# Altium footprint library STM32WB55RGV6TR.PcbLib: 3 footprints
Each footprint in its own frame and in the unit in brackets; x right, y up, seen from the top. Pads: shape width x height; smd on the part's side, far side on the other; paste and mask are expansions set on the pad; w line width, h text height; cw(c..) or ccw(c..) is an arc to the next point about the centre after c.
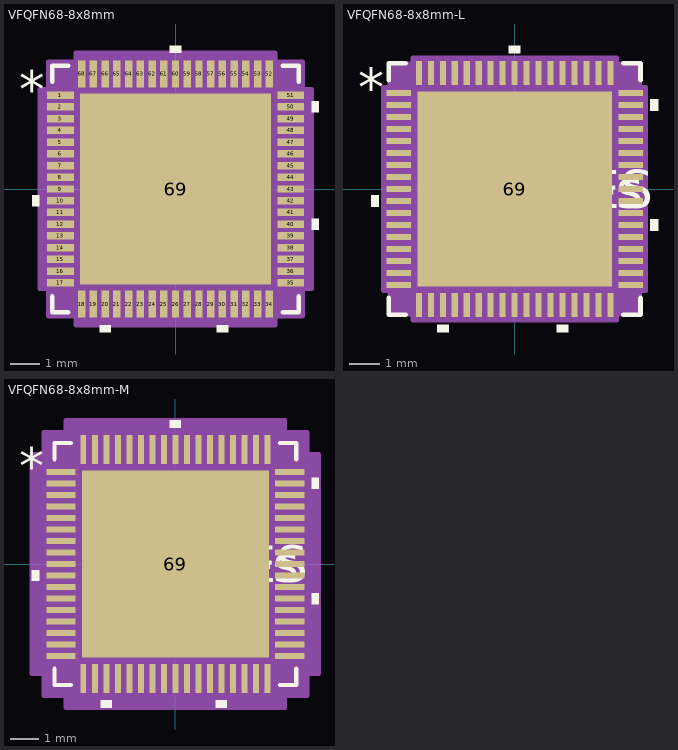
[diagram p0: the footprints below, top view; thin cyan lines are the x and y axes]

## VFQFN68-8x8mm [mil]
pads (69):
  rect 36x10 smd paste-18 mask-18: 1(-154.5,125.98) 2(-154.5,110.24) 3(-154.5,94.49) 4(-154.5,78.74) 5(-154.5,62.99) 6(-154.5,47.24) 7(-154.5,31.5) 8(-154.5,15.75) 9(-154.5,0) 10(-154.5,-15.75) 11(-154.5,-31.5) 12(-154.5,-47.24) 13(-154.5,-62.99) 14(-154.5,-78.74) 15(-154.5,-94.49) 16(-154.5,-110.24) 17(-154.5,-125.98) 35(154.5,-125.98) 36(154.5,-110.24) 37(154.5,-94.49) 38(154.5,-78.74) 39(154.5,-62.99) 40(154.5,-47.24) 41(154.5,-31.5) 42(154.5,-15.75) 43(154.5,0) 44(154.5,15.75) 45(154.5,31.5) 46(154.5,47.24) 47(154.5,62.99) 48(154.5,78.74) 49(154.5,94.49) 50(154.5,110.24) 51(154.5,125.98)
  rect 10x36 smd paste-18 mask-18: 18(-125.98,-154.5) 19(-110.24,-154.5) 20(-94.49,-154.5) 21(-78.74,-154.5) 22(-62.99,-154.5) 23(-47.24,-154.5) 24(-31.5,-154.5) 25(-15.75,-154.5) 26(0,-154.5) 27(15.75,-154.5) 28(31.5,-154.5) 29(47.24,-154.5) 30(62.99,-154.5) 31(78.74,-154.5) 32(94.49,-154.5) 33(110.24,-154.5) 34(125.98,-154.5) 52(125.98,154.5) 53(110.24,154.5) 54(94.49,154.5) 55(78.74,154.5) 56(62.99,154.5) 57(47.24,154.5) 58(31.5,154.5) 59(15.75,154.5) 60(0,154.5) 61(-15.75,154.5) 62(-31.5,154.5) 63(-47.24,154.5) 64(-62.99,154.5) 65(-78.74,154.5) 66(-94.49,154.5) 67(-110.24,154.5) 68(-125.98,154.5)
  rect 256x256 smd paste-128 mask+0: 69(0,0)
Top Overlay:
  region: 7.5,182.5 -7.5,182.5 -7.5,192.5 7.5,192.5
  region: 182.5,117.74 192.5,117.74 192.5,102.74 182.5,102.74
  region: 182.5,-39.74 192.5,-39.74 192.5,-54.74 182.5,-54.74
  region: 70.49,-182.5 55.49,-182.5 55.49,-192.5 70.49,-192.5
  region: -86.99,-182.5 -101.99,-182.5 -101.99,-192.5 -86.99,-192.5
  region: -182.5,-8.25 -192.5,-8.25 -192.5,-23.25 -182.5,-23.25
  lines w6: -165.5,-144.08 -165.5,-165.5 -144.08,-165.5 ; -165.5,144.08 -165.5,165.5 -144.08,165.5 ; 144.08,-165.5 165.5,-165.5 165.5,-144.08 ; 144.08,165.5 165.5,165.5 165.5,144.08
  text "*" at -210,108.86 h50
Top Paste:
  region: 124.06,-80.74 80.74,-80.74 80.74,-124.06 124.06,-124.06
  region: 124.06,-29.54 80.74,-29.54 80.74,-72.86 124.06,-72.86
  region: 124.06,21.66 80.74,21.66 80.74,-21.66 124.06,-21.66
  region: 124.06,72.86 80.74,72.86 80.74,29.54 124.06,29.54
  region: 124.06,124.06 80.74,124.06 80.74,80.74 124.06,80.74
  region: 72.86,-80.74 29.54,-80.74 29.54,-124.06 72.86,-124.06
  region: 72.86,-29.54 29.54,-29.54 29.54,-72.86 72.86,-72.86
  region: 72.86,21.66 29.54,21.66 29.54,-21.66 72.86,-21.66
  region: 72.86,72.86 29.54,72.86 29.54,29.54 72.86,29.54
  region: 72.86,124.06 29.54,124.06 29.54,80.74 72.86,80.74
  region: 21.66,-80.74 -21.66,-80.74 -21.66,-124.06 21.66,-124.06
  region: 21.66,-29.54 -21.66,-29.54 -21.66,-72.86 21.66,-72.86
  region: 21.66,21.66 -21.66,21.66 -21.66,-21.66 21.66,-21.66
  region: 21.66,72.86 -21.66,72.86 -21.66,29.54 21.66,29.54
  region: 21.66,124.06 -21.66,124.06 -21.66,80.74 21.66,80.74
  region: -29.54,-80.74 -72.86,-80.74 -72.86,-124.06 -29.54,-124.06
  region: -29.54,-29.54 -72.86,-29.54 -72.86,-72.86 -29.54,-72.86
  region: -29.54,21.66 -72.86,21.66 -72.86,-21.66 -29.54,-21.66
  region: -29.54,72.86 -72.86,72.86 -72.86,29.54 -29.54,29.54
  region: -29.54,124.06 -72.86,124.06 -72.86,80.74 -29.54,80.74
  region: -80.74,-80.74 -124.06,-80.74 -124.06,-124.06 -80.74,-124.06
  region: -80.74,-29.54 -124.06,-29.54 -124.06,-72.86 -80.74,-72.86
  region: -80.74,21.66 -124.06,21.66 -124.06,-21.66 -80.74,-21.66
  region: -80.74,72.86 -124.06,72.86 -124.06,29.54 -80.74,29.54
  region: -80.74,124.06 -124.06,124.06 -124.06,80.74 -80.74,80.74
Mechanical 13:
  lines w1: -160.5,110.5 -110.5,160.5 ; -160.5,-160.5 -160.5,160.5 160.5,160.5 160.5,-160.5 -160.5,-160.5 ; -160.5,-130.98 -160.5,-120.98 -160.5,-130.98 ; -160.5,-115.24 -160.5,-105.24 -160.5,-115.24 ; -160.5,-99.49 -160.5,-89.49 -160.5,-99.49 ; -160.5,-83.74 -160.5,-73.74 -160.5,-83.74 ; -160.5,-67.99 -160.5,-57.99 -160.5,-67.99 ; -160.5,-52.24 -160.5,-42.24 -160.5,-52.24 ; -160.5,-36.5 -160.5,-26.5 -160.5,-36.5 ; -160.5,-20.75 -160.5,-10.75 -160.5,-20.75 ; -160.5,-5 -160.5,5 -160.5,-5 ; -160.5,10.75 -160.5,20.75 -160.5,10.75 ; -160.5,26.5 -160.5,36.5 -160.5,26.5 ; -160.5,42.24 -160.5,52.24 -160.5,42.24 ; -160.5,57.99 -160.5,67.99 -160.5,57.99 ; -160.5,73.74 -160.5,83.74 -160.5,73.74 ; -160.5,89.49 -160.5,99.49 -160.5,89.49 ; -160.5,105.24 -160.5,115.24 -160.5,105.24 ; -160.5,120.98 -160.5,130.98 -160.5,120.98 ; -130.98,-160.5 -120.98,-160.5 -130.98,-160.5 ; -130.98,160.5 -120.98,160.5 -130.98,160.5 ; -115.24,-160.5 -105.24,-160.5 -115.24,-160.5 ; -115.24,160.5 -105.24,160.5 -115.24,160.5 ; -99.49,-160.5 -89.49,-160.5 -99.49,-160.5 ; -99.49,160.5 -89.49,160.5 -99.49,160.5 ; -83.74,-160.5 -73.74,-160.5 -83.74,-160.5 ; -83.74,160.5 -73.74,160.5 -83.74,160.5 ; -67.99,-160.5 -57.99,-160.5 -67.99,-160.5 ; -67.99,160.5 -57.99,160.5 -67.99,160.5 ; -52.24,-160.5 -42.24,-160.5 -52.24,-160.5 ; -52.24,160.5 -42.24,160.5 -52.24,160.5 ; -36.5,-160.5 -26.5,-160.5 -36.5,-160.5 ; -36.5,160.5 -26.5,160.5 -36.5,160.5 ; -20.75,-160.5 -10.75,-160.5 -20.75,-160.5 ; -20.75,160.5 -10.75,160.5 -20.75,160.5 ; -5,-160.5 5,-160.5 -5,-160.5 ; -5,160.5 5,160.5 -5,160.5 ; 10.75,-160.5 20.75,-160.5 10.75,-160.5 ; 10.75,160.5 20.75,160.5 10.75,160.5 ; 26.5,-160.5 36.5,-160.5 26.5,-160.5 ; 26.5,160.5 36.5,160.5 26.5,160.5 ; 42.24,-160.5 52.24,-160.5 42.24,-160.5 ; 42.24,160.5 52.24,160.5 42.24,160.5 ; 57.99,-160.5 67.99,-160.5 57.99,-160.5 ; 57.99,160.5 67.99,160.5 57.99,160.5 ; 73.74,-160.5 83.74,-160.5 73.74,-160.5 ; 73.74,160.5 83.74,160.5 73.74,160.5 ; 89.49,-160.5 99.49,-160.5 89.49,-160.5 ; 89.49,160.5 99.49,160.5 89.49,160.5 ; 105.24,-160.5 115.24,-160.5 105.24,-160.5 ; 105.24,160.5 115.24,160.5 105.24,160.5 ; 120.98,-160.5 130.98,-160.5 120.98,-160.5 ; 120.98,160.5 130.98,160.5 120.98,160.5 ; 160.5,-130.98 160.5,-120.98 160.5,-130.98 ; 160.5,-115.24 160.5,-105.24 160.5,-115.24 ; 160.5,-99.49 160.5,-89.49 160.5,-99.49 ; 160.5,-83.74 160.5,-73.74 160.5,-83.74 ; 160.5,-67.99 160.5,-57.99 160.5,-67.99 ; 160.5,-52.24 160.5,-42.24 160.5,-52.24 ; 160.5,-36.5 160.5,-26.5 160.5,-36.5 ; 160.5,-20.75 160.5,-10.75 160.5,-20.75 ; 160.5,-5 160.5,5 160.5,-5 ; 160.5,10.75 160.5,20.75 160.5,10.75 ; 160.5,26.5 160.5,36.5 160.5,26.5 ; 160.5,42.24 160.5,52.24 160.5,42.24 ; 160.5,57.99 160.5,67.99 160.5,57.99 ; 160.5,73.74 160.5,83.74 160.5,73.74 ; 160.5,89.49 160.5,99.49 160.5,89.49 ; 160.5,105.24 160.5,115.24 160.5,105.24 ; 160.5,120.98 160.5,130.98 160.5,120.98
  text "*" at -149,108.86 h50
Mechanical 15:
  region: -133.86,-170.5 -170.5,-170.5 -170.5,-133.86 -182.5,-133.86 -182.5,133.86 -170.5,133.86 -170.5,170.5 -133.86,170.5 -133.86,182.5 133.86,182.5 133.86,170.5 170.5,170.5 170.5,133.86 182.5,133.86 182.5,-133.86 170.5,-133.86 170.5,-170.5 133.86,-170.5 133.86,-182.5 -133.86,-182.5
  lines w6: -182.5,-133.86 -182.5,133.86 -170.5,133.86 -170.5,170.5 -133.86,170.5 -133.86,182.5 133.86,182.5 133.86,170.5 170.5,170.5 170.5,133.86 182.5,133.86 182.5,-133.86 170.5,-133.86 170.5,-170.5 133.86,-170.5 133.86,-182.5 -133.86,-182.5 -133.86,-170.5 -170.5,-170.5 -170.5,-133.86 -182.5,-133.86
3D body "VFQFN68-8x8mm.step": height 39.09, standoff 0, extent -160.51,-160.51 160.51,160.51

## VFQFN68-8x8mm-L [mil]
pads (69):
  rect 32x8 smd paste+0 mask+0: 1(-152.5,125.98) 2(-152.5,110.24) 3(-152.5,94.49) 4(-152.5,78.74) 5(-152.5,62.99) 6(-152.5,47.24) 7(-152.5,31.5) 8(-152.5,15.75) 9(-152.5,0) 10(-152.5,-15.75) 11(-152.5,-31.5) 12(-152.5,-47.24) 13(-152.5,-62.99) 14(-152.5,-78.74) 15(-152.5,-94.49) 16(-152.5,-110.24) 17(-152.5,-125.98) 35(152.5,-125.98) 36(152.5,-110.24) 37(152.5,-94.49) 38(152.5,-78.74) 39(152.5,-62.99) 40(152.5,-47.24) 41(152.5,-31.5) 42(152.5,-15.75) 43(152.5,0) 44(152.5,15.75) 45(152.5,31.5) 46(152.5,47.24) 47(152.5,62.99) 48(152.5,78.74) 49(152.5,94.49) 50(152.5,110.24) 51(152.5,125.98)
  rect 8x32 smd paste+0 mask+0: 18(-125.98,-152.5) 19(-110.24,-152.5) 20(-94.49,-152.5) 21(-78.74,-152.5) 22(-62.99,-152.5) 23(-47.24,-152.5) 24(-31.5,-152.5) 25(-15.75,-152.5) 26(0,-152.5) 27(15.75,-152.5) 28(31.5,-152.5) 29(47.24,-152.5) 30(62.99,-152.5) 31(78.74,-152.5) 32(94.49,-152.5) 33(110.24,-152.5) 34(125.98,-152.5) 52(125.98,152.5) 53(110.24,152.5) 54(94.49,152.5) 55(78.74,152.5) 56(62.99,152.5) 57(47.24,152.5) 58(31.5,152.5) 59(15.75,152.5) 60(0,152.5) 61(-15.75,152.5) 62(-31.5,152.5) 63(-47.24,152.5) 64(-62.99,152.5) 65(-78.74,152.5) 66(-94.49,152.5) 67(-110.24,152.5) 68(-125.98,152.5)
  rect 256x256 smd paste-128 mask+0: 69(0,0)
Top Overlay:
  region: -178.5,-8.25 -188.5,-8.25 -188.5,-23.25 -178.5,-23.25
  region: -86.99,-178.5 -101.99,-178.5 -101.99,-188.5 -86.99,-188.5
  region: 70.49,-178.5 55.49,-178.5 55.49,-188.5 70.49,-188.5
  region: 178.5,-39.74 188.5,-39.74 188.5,-54.74 178.5,-54.74
  region: 178.5,117.74 188.5,117.74 188.5,102.74 178.5,102.74
  region: 7.5,178.5 -7.5,178.5 -7.5,188.5 7.5,188.5
  lines w6: -165.5,-143.08 -165.5,-165.5 -143.08,-165.5 ; -165.5,143.08 -165.5,165.5 -143.08,165.5 ; 143.08,-165.5 165.5,-165.5 165.5,-143.08 ; 143.08,165.5 165.5,165.5 165.5,143.08
  text "*" at -206,108.86 h50
  text "RefDes" at -75,-25 h50
  text "REFDES" at -87.5,-25 h50
Top Paste:
  region: -80.74,124.06 -124.06,124.06 -124.06,80.74 -80.74,80.74
  region: -80.74,72.86 -124.06,72.86 -124.06,29.54 -80.74,29.54
  region: -80.74,21.66 -124.06,21.66 -124.06,-21.66 -80.74,-21.66
  region: -80.74,-29.54 -124.06,-29.54 -124.06,-72.86 -80.74,-72.86
  region: -80.74,-80.74 -124.06,-80.74 -124.06,-124.06 -80.74,-124.06
  region: -29.54,124.06 -72.86,124.06 -72.86,80.74 -29.54,80.74
  region: -29.54,72.86 -72.86,72.86 -72.86,29.54 -29.54,29.54
  region: -29.54,21.66 -72.86,21.66 -72.86,-21.66 -29.54,-21.66
  region: -29.54,-29.54 -72.86,-29.54 -72.86,-72.86 -29.54,-72.86
  region: -29.54,-80.74 -72.86,-80.74 -72.86,-124.06 -29.54,-124.06
  region: 21.66,124.06 -21.66,124.06 -21.66,80.74 21.66,80.74
  region: 21.66,72.86 -21.66,72.86 -21.66,29.54 21.66,29.54
  region: 21.66,21.66 -21.66,21.66 -21.66,-21.66 21.66,-21.66
  region: 21.66,-29.54 -21.66,-29.54 -21.66,-72.86 21.66,-72.86
  region: 21.66,-80.74 -21.66,-80.74 -21.66,-124.06 21.66,-124.06
  region: 72.86,124.06 29.54,124.06 29.54,80.74 72.86,80.74
  region: 72.86,72.86 29.54,72.86 29.54,29.54 72.86,29.54
  region: 72.86,21.66 29.54,21.66 29.54,-21.66 72.86,-21.66
  region: 72.86,-29.54 29.54,-29.54 29.54,-72.86 72.86,-72.86
  region: 72.86,-80.74 29.54,-80.74 29.54,-124.06 72.86,-124.06
  region: 124.06,124.06 80.74,124.06 80.74,80.74 124.06,80.74
  region: 124.06,72.86 80.74,72.86 80.74,29.54 124.06,29.54
  region: 124.06,21.66 80.74,21.66 80.74,-21.66 124.06,-21.66
  region: 124.06,-29.54 80.74,-29.54 80.74,-72.86 124.06,-72.86
  region: 124.06,-80.74 80.74,-80.74 80.74,-124.06 124.06,-124.06
Mechanical 13:
  drawing of 281 lines, arcs and shapes, not listed
  text "*" at -149,108.86 h50
  text "RefDes2" at -87.5,-25 h50
Mechanical 15:
  region: -133.98,-164.5 -164.5,-164.5 -164.5,-133.98 -172.5,-133.98 -172.5,133.98 -164.5,133.98 -164.5,164.5 -133.98,164.5 -133.98,172.5 133.98,172.5 133.98,164.5 164.5,164.5 164.5,133.98 172.5,133.98 172.5,-133.98 164.5,-133.98 164.5,-164.5 133.98,-164.5 133.98,-172.5 -133.98,-172.5
  lines w6: -172.5,-133.98 -164.5,-133.98 -164.5,-164.5 -133.98,-164.5 -133.98,-172.5 133.98,-172.5 133.98,-164.5 164.5,-164.5 164.5,-133.98 172.5,-133.98 172.5,133.98 164.5,133.98 164.5,164.5 133.98,164.5 133.98,172.5 -133.98,172.5 -133.98,164.5 -164.5,164.5 -164.5,133.98 -172.5,133.98 -172.5,-133.98
3D body "VFQFN68-8x8mm.step": height 39.09, standoff 0, extent -160.51,-160.51 160.51,160.51

## VFQFN68-8x8mm-M [mil]
pads (69):
  rect 40x8 smd paste+0 mask+0: 1(-156.5,125.98) 2(-156.5,110.24) 3(-156.5,94.49) 4(-156.5,78.74) 5(-156.5,62.99) 6(-156.5,47.24) 7(-156.5,31.5) 8(-156.5,15.75) 9(-156.5,0) 10(-156.5,-15.75) 11(-156.5,-31.5) 12(-156.5,-47.24) 13(-156.5,-62.99) 14(-156.5,-78.74) 15(-156.5,-94.49) 16(-156.5,-110.24) 17(-156.5,-125.98) 35(156.5,-125.98) 36(156.5,-110.24) 37(156.5,-94.49) 38(156.5,-78.74) 39(156.5,-62.99) 40(156.5,-47.24) 41(156.5,-31.5) 42(156.5,-15.75) 43(156.5,0) 44(156.5,15.75) 45(156.5,31.5) 46(156.5,47.24) 47(156.5,62.99) 48(156.5,78.74) 49(156.5,94.49) 50(156.5,110.24) 51(156.5,125.98)
  rect 8x40 smd paste+0 mask+0: 18(-125.98,-156.5) 19(-110.24,-156.5) 20(-94.49,-156.5) 21(-78.74,-156.5) 22(-62.99,-156.5) 23(-47.24,-156.5) 24(-31.5,-156.5) 25(-15.75,-156.5) 26(0,-156.5) 27(15.75,-156.5) 28(31.5,-156.5) 29(47.24,-156.5) 30(62.99,-156.5) 31(78.74,-156.5) 32(94.49,-156.5) 33(110.24,-156.5) 34(125.98,-156.5) 52(125.98,156.5) 53(110.24,156.5) 54(94.49,156.5) 55(78.74,156.5) 56(62.99,156.5) 57(47.24,156.5) 58(31.5,156.5) 59(15.75,156.5) 60(0,156.5) 61(-15.75,156.5) 62(-31.5,156.5) 63(-47.24,156.5) 64(-62.99,156.5) 65(-78.74,156.5) 66(-94.49,156.5) 67(-110.24,156.5) 68(-125.98,156.5)
  rect 256x256 smd paste-128 mask+0: 69(0,0)
Top Overlay:
  region: -186.5,-8.25 -196.5,-8.25 -196.5,-23.25 -186.5,-23.25
  region: -86.99,-186.5 -101.99,-186.5 -101.99,-196.5 -86.99,-196.5
  region: 70.49,-186.5 55.49,-186.5 55.49,-196.5 70.49,-196.5
  region: 186.5,-39.74 196.5,-39.74 196.5,-54.74 186.5,-54.74
  region: 186.5,117.74 196.5,117.74 196.5,102.74 186.5,102.74
  region: 7.5,186.5 -7.5,186.5 -7.5,196.5 7.5,196.5
  lines w6: -165.5,-143.08 -165.5,-165.5 -143.08,-165.5 ; -165.5,143.08 -165.5,165.5 -143.08,165.5 ; 143.08,-165.5 165.5,-165.5 165.5,-143.08 ; 143.08,165.5 165.5,165.5 165.5,143.08
  text "*" at -214,108.86 h50
  text "RefDes" at -75,-25 h50
  text "REFDES" at -87.5,-25 h50
Top Paste:
  region: -80.74,124.06 -124.06,124.06 -124.06,80.74 -80.74,80.74
  region: -80.74,72.86 -124.06,72.86 -124.06,29.54 -80.74,29.54
  region: -80.74,21.66 -124.06,21.66 -124.06,-21.66 -80.74,-21.66
  region: -80.74,-29.54 -124.06,-29.54 -124.06,-72.86 -80.74,-72.86
  region: -80.74,-80.74 -124.06,-80.74 -124.06,-124.06 -80.74,-124.06
  region: -29.54,124.06 -72.86,124.06 -72.86,80.74 -29.54,80.74
  region: -29.54,72.86 -72.86,72.86 -72.86,29.54 -29.54,29.54
  region: -29.54,21.66 -72.86,21.66 -72.86,-21.66 -29.54,-21.66
  region: -29.54,-29.54 -72.86,-29.54 -72.86,-72.86 -29.54,-72.86
  region: -29.54,-80.74 -72.86,-80.74 -72.86,-124.06 -29.54,-124.06
  region: 21.66,124.06 -21.66,124.06 -21.66,80.74 21.66,80.74
  region: 21.66,72.86 -21.66,72.86 -21.66,29.54 21.66,29.54
  region: 21.66,21.66 -21.66,21.66 -21.66,-21.66 21.66,-21.66
  region: 21.66,-29.54 -21.66,-29.54 -21.66,-72.86 21.66,-72.86
  region: 21.66,-80.74 -21.66,-80.74 -21.66,-124.06 21.66,-124.06
  region: 72.86,124.06 29.54,124.06 29.54,80.74 72.86,80.74
  region: 72.86,72.86 29.54,72.86 29.54,29.54 72.86,29.54
  region: 72.86,21.66 29.54,21.66 29.54,-21.66 72.86,-21.66
  region: 72.86,-29.54 29.54,-29.54 29.54,-72.86 72.86,-72.86
  region: 72.86,-80.74 29.54,-80.74 29.54,-124.06 72.86,-124.06
  region: 124.06,124.06 80.74,124.06 80.74,80.74 124.06,80.74
  region: 124.06,72.86 80.74,72.86 80.74,29.54 124.06,29.54
  region: 124.06,21.66 80.74,21.66 80.74,-21.66 124.06,-21.66
  region: 124.06,-29.54 80.74,-29.54 80.74,-72.86 124.06,-72.86
  region: 124.06,-80.74 80.74,-80.74 80.74,-124.06 124.06,-124.06
Mechanical 13:
  drawing of 281 lines, arcs and shapes, not listed
  text "*" at -149,108.86 h50
  text "RefDes2" at -87.5,-25 h50
Mechanical 15:
  region: -149.98,-180.5 -180.5,-180.5 -180.5,-149.98 -196.5,-149.98 -196.5,149.98 -180.5,149.98 -180.5,180.5 -149.98,180.5 -149.98,196.5 149.98,196.5 149.98,180.5 180.5,180.5 180.5,149.98 196.5,149.98 196.5,-149.98 180.5,-149.98 180.5,-180.5 149.98,-180.5 149.98,-196.5 -149.98,-196.5
  lines w6: -196.5,-149.98 -180.5,-149.98 -180.5,-180.5 -149.98,-180.5 -149.98,-196.5 149.98,-196.5 149.98,-180.5 180.5,-180.5 180.5,-149.98 196.5,-149.98 196.5,149.98 180.5,149.98 180.5,180.5 149.98,180.5 149.98,196.5 -149.98,196.5 -149.98,180.5 -180.5,180.5 -180.5,149.98 -196.5,149.98 -196.5,-149.98
3D body "VFQFN68-8x8mm.step": height 39.09, standoff 0, extent -160.51,-160.51 160.51,160.51